# EAGLE library part ANALOG:ISOLATOR_ISO12X (library QuantumOptics)
Analog Isolator, ISO12x T.I., ±10V gain=1. http://focus.ti.com/lit/ds/symlink/iso124.pdf
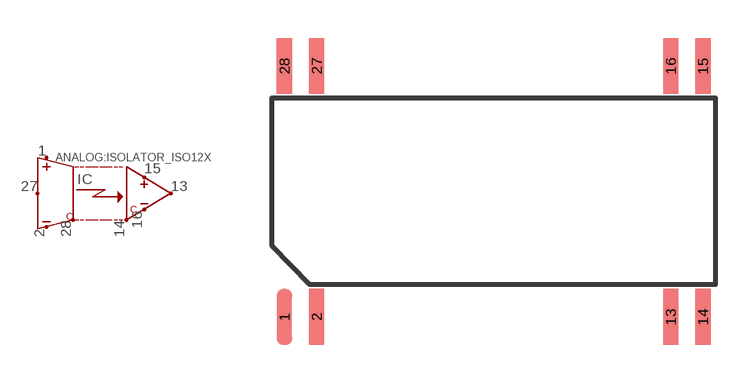
[diagram p134: symbol with the pads of SOIC28B; footprint SOIC28B]

Designator prefix IC

## ANALOG:ISOLATOR_ISO12X-SOIC28B  [SOIC28B]
1  IN+V
2  IN-V
13  OUT
14  OUT-COM
15  OUT+V
16  OUT-V
27  IN
28  IN-COM

## Footprint SOIC28B (pad centres in mm)
SOIC-28, isolation version, missing centre pins, for Avago ISO12x isolation amps. http://focus.ti.com/lit/ds/symlink/iso124.pdf
smd 0.6 x 2.2: 1 -7.62,-4.81; 2 -6.35,-4.81; 13 7.62,-4.81; 14 8.89,-4.81; 15 8.89,5.08; 16 7.62,5.08; 27 -6.35,5.08; 28 -7.62,5.08